# Altium footprint library SON50P150X170X55-6N-D.PcbLib: 1 footprints
Each footprint in its own frame and in the unit in brackets; x right, y up, seen from the top. Pads: shape width x height; smd on the part's side, far side on the other; paste and mask are expansions set on the pad; w line width, h text height; cw(c..) or ccw(c..) is an arc to the next point about the centre after c.
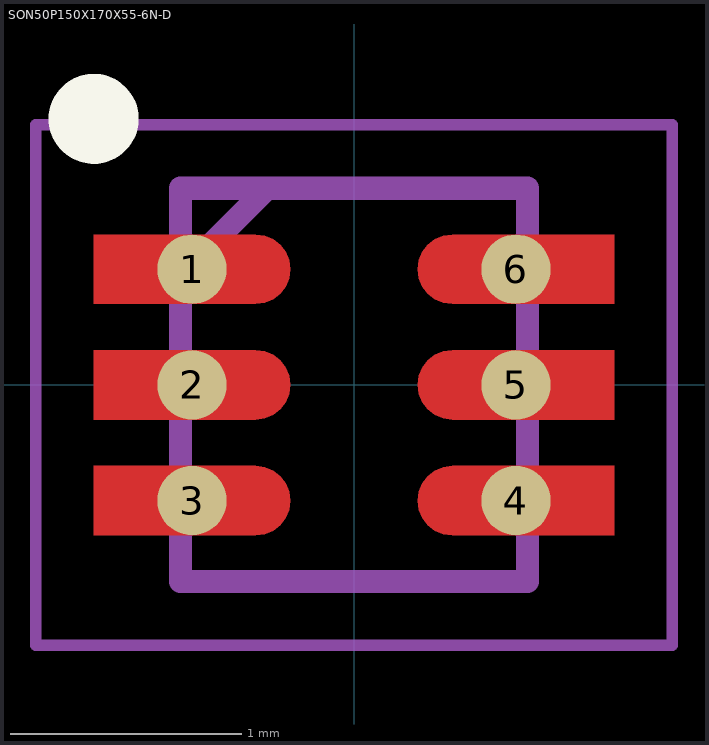
[diagram p0: the footprint, top view; thin cyan lines are the x and y axes]

## SON50P150X170X55-6N-D [mm]
pads (6):
  round 0.3 smd: 1(-0.7,0.5) 2(-0.7,0) 3(-0.7,-0.5) 4(0.7,-0.5) 5(0.7,0) 6(0.7,0.5)
L1-Top Layer:
  region: -1.125,0.65 -0.425,0.65 -0.386,0.645 -0.35,0.63 -0.319,0.606 -0.295,0.575 -0.28,0.539 -0.275,0.5 -0.28,0.461 -0.295,0.425 -0.319,0.394 -0.35,0.37 -0.386,0.355 -0.425,0.35 -1.125,0.35
  region: -1.125,0.15 -0.425,0.15 -0.386,0.145 -0.35,0.13 -0.319,0.106 -0.295,0.075 -0.28,0.039 -0.275,0 -0.28,-0.039 -0.295,-0.075 -0.319,-0.106 -0.35,-0.13 -0.386,-0.145 -0.425,-0.15 -1.125,-0.15
  region: -1.125,-0.35 -0.425,-0.35 -0.386,-0.355 -0.35,-0.37 -0.319,-0.394 -0.295,-0.425 -0.28,-0.461 -0.275,-0.5 -0.28,-0.539 -0.295,-0.575 -0.319,-0.606 -0.35,-0.63 -0.386,-0.645 -0.425,-0.65 -1.125,-0.65
  region: 1.125,-0.65 0.425,-0.65 0.386,-0.645 0.35,-0.63 0.319,-0.606 0.295,-0.575 0.28,-0.539 0.275,-0.5 0.28,-0.461 0.295,-0.425 0.319,-0.394 0.35,-0.37 0.386,-0.355 0.425,-0.35 1.125,-0.35
  region: 1.125,-0.15 0.425,-0.15 0.386,-0.145 0.35,-0.13 0.319,-0.106 0.295,-0.075 0.28,-0.039 0.275,0 0.28,0.039 0.295,0.075 0.319,0.106 0.35,0.13 0.386,0.145 0.425,0.15 1.125,0.15
  region: 1.125,0.35 0.425,0.35 0.386,0.355 0.35,0.37 0.319,0.394 0.295,0.425 0.28,0.461 0.275,0.5 0.28,0.539 0.295,0.575 0.319,0.606 0.35,0.63 0.386,0.645 0.425,0.65 1.125,0.65
Top Overlay:
  circle w0.25: c-1.125,1.15 r0.07
Mechanical 15:
  lines w0.1: -0.75,0.475 -0.375,0.85 ; -0.75,-0.85 0.75,-0.85 0.75,0.85 -0.75,0.85 -0.75,-0.85
Mechanical 20:
  lines w0.05: -1.375,-1.125 1.375,-1.125 1.375,1.125 -1.375,1.125 -1.375,-1.125
3D body "ECMF02-2AMX6.stp": height 5.8, standoff -4.65, extent -10,-3.376 10,3.376